# EAGLE library part IS07762 (library iso7762)
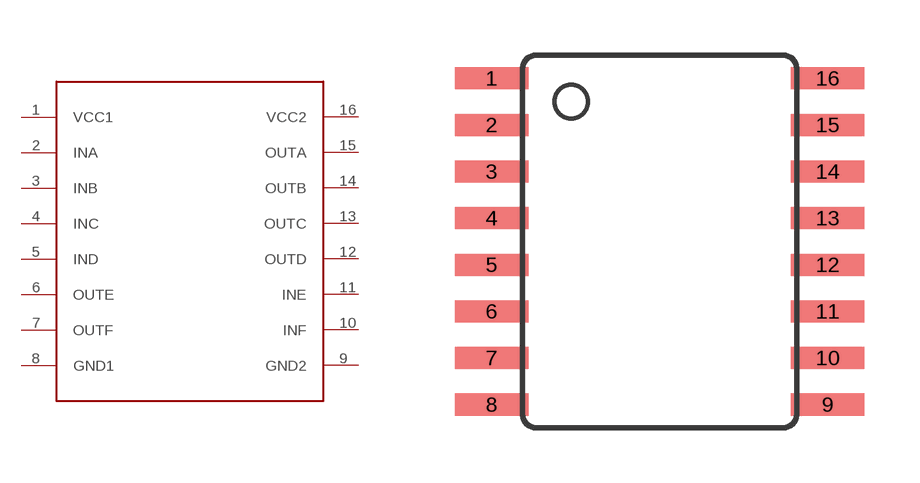
[diagram p0: symbol with the pads of ISO7762; footprint ISO7762]

Designator prefix -

## IS07762  [ISO7762]
1  VCC1
2  INA
3  INB
4  INC
5  IND
6  OUTE
7  OUTF
8  GND1
9  GND2
10  INF
11  INE
12  OUTD
13  OUTC
14  OUTB
15  OUTA
16  VCC2

## Footprint ISO7762 (pad centres in mm)
smd 2 x 0.6: 1 -4.451,4.381; 2 -4.451,3.111; 3 -4.451,1.841; 4 -4.451,0.572; 5 -4.451,-0.699; 6 -4.451,-1.968; 7 -4.451,-3.239; 8 -4.451,-4.508; 9 4.705,-4.508; 10 4.705,-3.239; 11 4.705,-1.968; 12 4.705,-0.699; 13 4.705,0.572; 14 4.705,1.841; 15 4.705,3.111; 16 4.705,4.381